# EAGLE library part STM32F042F6P6 (library LARS_409_MK)
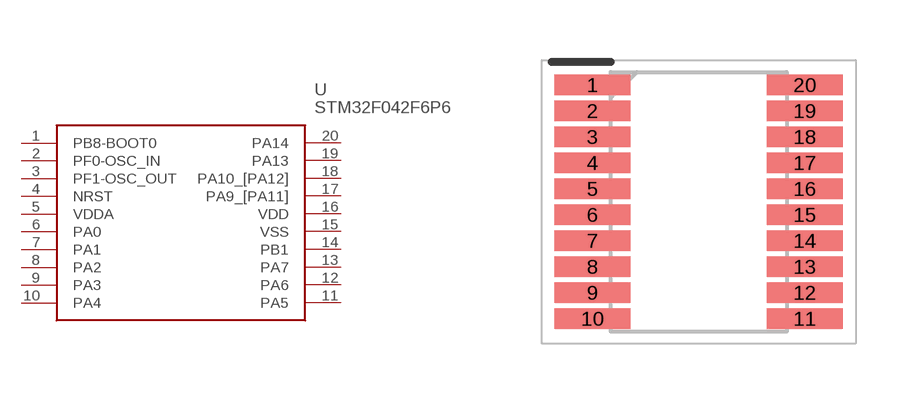
[diagram p0: symbol with the pads of SOP65P640X120-20N; footprint SOP65P640X120-20N]

Designator prefix U

## STM32F042F6P6  [SOP65P640X120-20N]
1  PB8-BOOT0
2  PF0-OSC_IN
3  PF1-OSC_OUT
4  NRST
5  VDDA
6  PA0
7  PA1
8  PA2
9  PA3
10  PA4
11  PA5
12  PA6
13  PA7
14  PB1
15  VSS
16  VDD
17  PA9_[PA11]
18  PA10_[PA12]
19  PA13
20  PA14

## Footprint SOP65P640X120-20N (pad centres in mm)
20-SOP, 0.65 mm pitch, 6.40 mm span, 6.40 X 4.10 X 1.20 mm body 20-pin SOP package with 0.65 mm pitch, 6.40 mm span with body size 6.40 X 4.10 X 1.20 mm
smd 1.901 x 0.522: 1 -2.655,2.925; 2 -2.655,2.275; 3 -2.655,1.625; 4 -2.655,0.975; 5 -2.655,0.325; 6 -2.655,-0.325; 7 -2.655,-0.975; 8 -2.655,-1.625; 9 -2.655,-2.275; 10 -2.655,-2.925; 11 2.655,-2.925; 12 2.655,-2.275; 13 2.655,-1.625; 14 2.655,-0.975; 15 2.655,-0.325; 16 2.655,0.325; 17 2.655,0.975; 18 2.655,1.625; 19 2.655,2.275; 20 2.655,2.925